# Altium footprint library adafruit.PCBLIB: 643 footprints (part 26 of 41)
Each footprint in its own frame and in the unit in brackets; x right, y up, seen from the top. Pads: shape width x height; smd on the part's side, far side on the other; paste and mask are expansions set on the pad; w line width, h text height; cw(c..) or ccw(c..) is an arc to the next point about the centre after c.
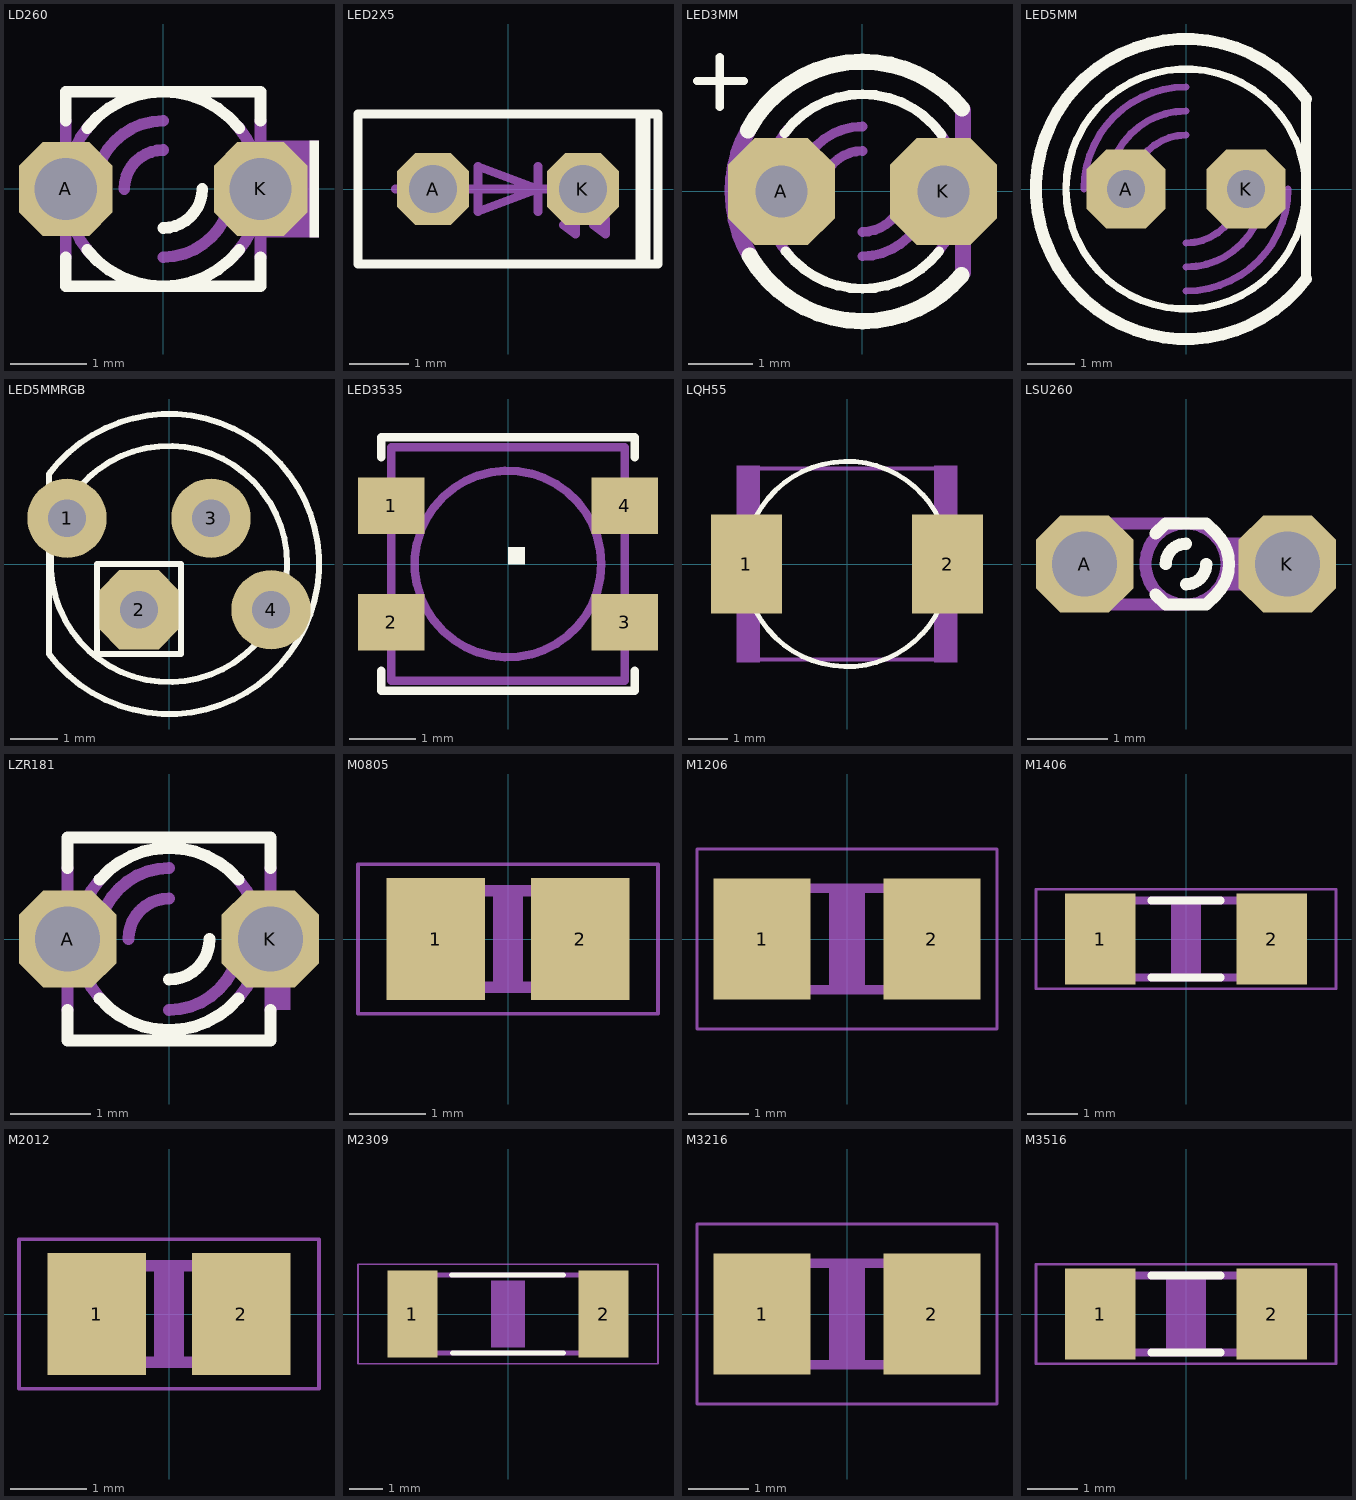
[diagram p25: the footprints below, top view; thin cyan lines are the x and y axes]

## LD260 [mil]
pads (2):
  oct 48x48 hole 32: A(-50,0) K(50,0)
Top Overlay:
  rectangle: 75,-25 80,25
  lines w6: -50,-35 -50,-50 50,-50 50,-35 ; -50,35 -50,50 50,50 50,35 ; -39.04,-31.24 ccw(c0,-0.01) 0,-50 ccw(c0,-0.01) 39.04,-31.24 ; -39.04,31.24 cw(c0,0.01) 0,50 cw(c0,0.01) 39.04,31.24 ; 0,-20 ccw(c0,0) 20,0
Mechanical 16:
  rectangle: 50,-25 80,25
  lines w6: -50,-35 -50,35 ; -37.96,-32.54 cw(c0,0) -50,0 cw(c0,0) -37.96,32.54 ; -35,0 cw(c0,0) 0,35 ; -20,0 cw(c0,0) 0,20 ; 0,-35 ccw(c0,0) 35,0 ; 37.63,-32.93 ccw(c-0.01,0) 50,0 ccw(c0,0) 38.41,32.01 ; 50,-35 50,35

## LED2X5 [mil]
pads (2):
  oct 48x48 hole 32: A(-50,0) K(50,0)
Top Overlay:
  rectangle: 85,-50 95,50
  lines w6: -100,-50 100,-50 100,50 -100,50 -100,-50
Mechanical 16:
  lines w6: -75,0 20,0 ; 20,-15 20,0 ; 20,15 20,0 ; 35,-10 45,-30 ; 55,-10 65,-30 ; 70,0 20,0 ; 20,0 -20,15 -20,-15 20,0 ; 45,-30 45,-20 37,-24 45,-30 ; 65,-30 65,-20 57,-24 65,-30

## LED3MM [mil]
pads (2):
  oct 66x66 hole 32: A(-50,0) K(50,0)
Top Overlay:
  lines w5: -102,68 -73,68 ; -88,52 -88,83
  lines w6: -48,36 cw(c0,0) 0,60 cw(c-0.01,0) 48.82,34.87 ; -47.36,-36.83 ccw(c0.01,0) 0,-60 ccw(c-0.01,0) 47.36,-36.83
  lines w10: -70.59,37.65 cw(c0,0) 0,80 cw(c0.01,0) 61.46,51.22 ; -69.46,-39.69 ccw(c0,0) 0,-80 ccw(c0,0) 61.07,-51.68
Mechanical 16:
  lines w6: -46.09,38.41 ccw(c0,-0.01) -60,0 ccw(c0,-0.01) -44.85,-39.86 ; -40,0 cw(c0,0) 0,40 ; -25,0 cw(c0,0) 0,25 ; 0,-40 ccw(c0,0) 40,0 ; 0,-25 ccw(c0,0) 25,0 ; 45.56,39.05 cw(c0,0.01) 60,0 cw(c0,0.01) 46.09,-38.41
  lines w10: -70.44,37.93 ccw(c0,0.01) -80,0 ccw(c0,0) -68.13,-41.93 ; 62,-50 62,50

## LED5MM [mil]
pads (2):
  oct 66x66 hole 32: A(-50,0) K(50,0)
Top Overlay:
  circle w6: c0,0 r100
  lines w8: 100,-75 100,75
  lines w10: 100,-75 cw(c0,0) 100,75
Mechanical 16:
  lines w6: -85,0 cw(c0,0) 0,85 ; -65,0 cw(c0,0) 0,65 ; -45,0 cw(c0,0) 0,45 ; 0,-85 ccw(c0,0) 85,0 ; 0,-65 ccw(c0,0) 65,0 ; 0,-45 ccw(c0,0) 45,0

## LED5MMRGB [mil]
pads (4):
  round 66 hole 31.5: 1(-85,38.13) 3(35,38.13) 4(85,-38.13)
  oct 66x66 hole 31.5: 2(-25,-38.13)
Top Overlay:
  circle w5: c0,0 r98.43
  lines w5: -100,-75 -100,75 cw(c0,0) -100,-75 ; -60,-75 10,-75 10,0 -60,0 -60,-75

## LED3535 [mm]
pads (4):
  rect 1x0.85 smd: 1(-1.75,0.875) 2(-1.75,-0.875) 3(1.75,-0.875) 4(1.75,0.875)
Top Overlay:
  region: 0,0 0.254,0 0.254,0.254 0,0.254
  lines w0.127: -1.9,-1.6 -1.9,-1.9 1.9,-1.9 1.9,-1.6 ; -1.9,1.6 -1.9,1.9 1.9,1.9 1.9,1.6
Mechanical 16:
  circle w0.127: c0,0 r1.4
  lines w0.127: -1.75,-1.75 1.75,-1.75 1.75,1.75 -1.75,1.75 -1.75,-1.75

## LQH55 [mil]
pads (2):
  rect 70.87x98.43 smd: 1(-100.39,0) 2(100.39,0)
Top Overlay:
  circle w5: c0,0 r102.36
Mechanical 16:
  rectangle: -110.24,-98.43 -86.61,98.43
  rectangle: 86.61,-98.43 110.24,98.43
  lines w4: -107.28,-95.47 107.28,-95.47 ; -107.28,95.47 107.28,95.47

## LSU260 [mil]
pads (2):
  oct 48x48 hole 32: A(-50,0) K(50,0)
Top Overlay:
  lines w6: -15,-15 -10,-20 10,-20 15,-15 ccw(c0,0) 15,15 10,20 -10,20 -15,15 ; -10,0 cw(c0,0) 0,10 ; 0,-10 ccw(c0,0) 10,0
Mechanical 16:
  circle w6: c0,0 r20
  rectangle: -55,-10 -45,10
  rectangle: 20,-10 55,10
  lines w6: 0,-20 -45,-20 -45,-10 ; 0,20 -45,20 -45,10 ; 20,-10 55,-10 55,10 20,10 ; -45,-10 -55,-10 -55,10 -45,10 ; -45,-10 -45,10

## LZR181 [mil]
pads (2):
  oct 48x48 hole 32: A(-50,0) K(50,0)
Top Overlay:
  lines w6: -50,-35 -50,-50 50,-50 50,-35 ; -50,35 -50,50 50,50 50,35 ; -34.17,-29.29 ccw(c-0.01,0) 0,-45 ccw(c0.01,0) 34.17,-29.29 ; -34.17,29.29 cw(c-0.01,0) 0,45 cw(c0.01,0) 34.17,29.29 ; 0,-20 ccw(c0,0) 20,0
Mechanical 16:
  rectangle: 50,-35 60,10
  rectangle: -60,-10 -50,10
  lines w6: -50,-35 -50,35 ; -35,0 cw(c0,0) 0,35 ; -34.17,-29.29 cw(c0,-0.01) -45,0 cw(c0,0.01) -34.17,29.29 ; -20,0 cw(c0,0) 0,20 ; 0,-35 ccw(c0,0) 35,0 ; 34.17,-29.29 ccw(c0,-0.01) 45,0 ccw(c0,0.01) 34.17,29.29 ; 50,-35 50,35

## M0805 [mil]
pads (2):
  rect 51.18x62.99 smd: 1(-37.4,0) 2(37.4,0)
Mechanical 6:
  rectangle: -7.87,-23.62 7.87,23.62
Mechanical 16:
  rectangle: -41,-28 -27,28
  rectangle: 27,-28 41,28
  lines w6: -28,-25 28,-25 ; -28,25 28,25
Mechanical 27:
  lines w2: -77.68,-38.7 77.68,-38.7 77.68,38.7 -77.68,38.7 -77.68,-38.7

## M1206 [mm]
pads (2):
  rect 1.6x2 smd: 1(-1.4,0) 2(1.4,0)
Mechanical 6:
  rectangle: -0.3,-0.8 0.3,0.8
Mechanical 16:
  rectangle: -1.702,-0.914 -1.118,0.914
  rectangle: 1.118,-0.914 1.702,0.914
  lines w0.152: -1.143,-0.838 1.143,-0.838 ; -1.143,0.838 1.143,0.838
Mechanical 27:
  lines w0.051: -2.473,-1.483 2.473,-1.483 2.473,1.483 -2.473,1.483 -2.473,-1.483

## M1406 [mil]
pads (2):
  rect 55.12x70.87 smd: 1(-66.93,0) 2(66.93,0)
Top Overlay:
  lines w6: -27,-30 27,-30 ; -27,30 27,30
Mechanical 6:
  rectangle: -11.81,-27.56 11.81,27.56
Mechanical 16:
  rectangle: -73,-33 -51,33
  rectangle: 51,-33 73,33
  lines w6: -52,-30 52,-30 ; -52,30 52,30
Mechanical 27:
  lines w2: -117.05,-38.7 117.05,-38.7 117.05,38.7 -117.05,38.7 -117.05,-38.7

## M2012 [mil]
pads (2):
  rect 51.18x62.99 smd: 1(-37.4,0) 2(37.4,0)
Mechanical 6:
  rectangle: -7.87,-23.62 7.87,23.62
Mechanical 16:
  rectangle: -41,-28 -27,28
  rectangle: 27,-28 41,28
  lines w6: -28,-25 28,-25 ; -28,25 28,25
Mechanical 27:
  lines w2: -77.68,-38.7 77.68,-38.7 77.68,38.7 -77.68,38.7 -77.68,-38.7

## M2309 [mil]
pads (2):
  rect 59.06x102.36 smd: 1(-112.2,0) 2(112.2,0)
Top Overlay:
  lines w6: -66,46 65,46 ; -65,-46 65,-46
Mechanical 6:
  rectangle: -19.69,-39.37 19.69,39.37
Mechanical 16:
  rectangle: -120,-49 -94,49
  rectangle: 94,-49 120,49
  lines w6: -96,46 95,46 ; -95,-46 95,-46
Mechanical 27:
  lines w2: -176.1,-58.39 176.1,-58.39 176.1,58.39 -176.1,58.39 -176.1,-58.39

## M3216 [mm]
pads (2):
  rect 1.6x2 smd: 1(-1.4,0) 2(1.4,0)
Mechanical 6:
  rectangle: -0.3,-0.8 0.3,0.8
Mechanical 16:
  rectangle: -1.702,-0.914 -1.118,0.914
  rectangle: 1.118,-0.914 1.702,0.914
  lines w0.152: -1.143,-0.838 1.143,-0.838 ; -1.143,0.838 1.143,0.838
Mechanical 27:
  lines w0.051: -2.473,-1.483 2.473,-1.483 2.473,1.483 -2.473,1.483 -2.473,-1.483

## M3516 [mil]
pads (2):
  rect 55.12x70.87 smd: 1(-66.93,0) 2(66.93,0)
Top Overlay:
  lines w6: -27,-30 27,-30 ; -27,30 27,30
Mechanical 6:
  rectangle: -15.75,-27.56 15.75,27.56
Mechanical 16:
  rectangle: -73,-33 -51,33
  rectangle: 51,-33 73,33
  lines w6: -52,-30 52,-30 ; -52,30 52,30
Mechanical 27:
  lines w2: -117.05,-38.7 117.05,-38.7 117.05,38.7 -117.05,38.7 -117.05,-38.7